# Altium schematic symbol library Capacitor.SchLib: 23 symbols
Pins are listed as number, name and electrical type; pins without a type are passive.

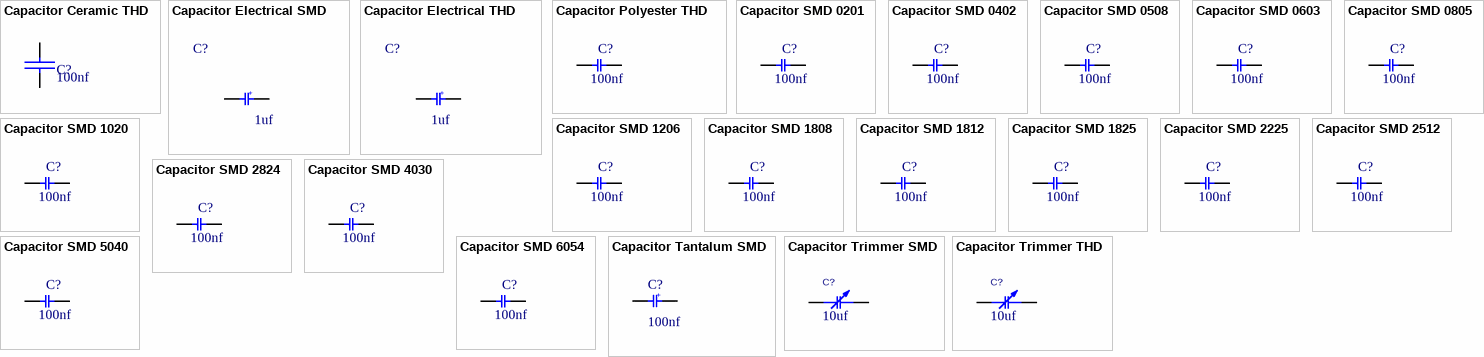
[diagram p0: symbols Capacitor Ceramic THD to Capacitor Trimmer THD]

## Capacitor Ceramic THD
designator C?  value 100nf
Capacitor Ceramic THD; DatasheetVersion: 2022
footprint Cap - 100nF
footprint C_CER_D3 (CAP, CER MULTILAYER, D:3.5mm, pitch: 2.54mm)
footprint C_CER_D5 (CAP, CER, D:5mm, pitch: 2.5mm)
footprint C_CER_D6A (CAP, CER MULTILAYER, 5.8X1.7mm, pitch: 2.5mm)
footprint C_CER_D6B (CAP, CER MULTILAYER, 6X2mm, pitch: 5mm)
footprint C_CER_D7A (CAP, CER MULTILAYER, 7.0X1.7mm, pitch: 5.0mm)
footprint C_CER_D7B (CAP, CER MULTILAYER, 7.0X2.6mm, pitch: 5.0mm)
footprint C_CER_D10 (CAP, CER MULTILAYER, 12X4mm, pitch: 7.5mm)
footprint C_CER_D12 (CAP, CER MULTILAYER, 12X4mm, pitch: 7.5mm)
footprint C_CER_M4 (CAP, CER MULTILAYER, 4.2X2.0mm, pitch: 5.0mm, TDK FK24)
footprint C_CER_M5 (CAP, CER MULTILAYER, 5.0X2.5mm, pitch: 2.5mm, RAD0.1)
footprint THD CRAMIC 5MM
footprint E_900x700x900 (TH, 2- Leads, Body 9x7mm, Pin Spacing 7.5mm)
pins: 1 +, 2 -

## Capacitor Electrical SMD
designator C?  value 1uf
Capacitor Electrical SMD; DatasheetVersion: 2022
footprint Elko A
footprint Elko B
footprint Elko C
footprint Elko D
footprint Elko D8
footprint Elko E
footprint Elko F
footprint Elko G
footprint C_EL_10_9 (Electrolytic Cap, 10.3mm, L: 8.7mm)
footprint C_EL_10_10 (Electrolytic Cap, 10.3mm, L: 10mm)
footprint C_EL_10_12 (Electrolytic Cap, 10.3mm, L: 12.4mm)
footprint C_EL_12 (Electrolytic Cap, 12.5x13mm)
footprint C_EL_6_4 (Electrolytic Cap, D: 6.3mm L: 3.9mm, Size D)
footprint C_EL_6_6 (Electrolytic Cap, D: 6.3mm L: 5.8mm, Size D)
footprint C_EL_6_8 (Electrolytic Cap, D: 6.3mm L: 7.7mm, Size D)
footprint C_EL_8 (Electrolytic Cap, Size E, Size F, 8.3X10)
footprint C_EL_4_4 (Electrolytic Cap, D: 4.3mm, Size B, 3.9mm Height)
footprint C_EL_4_5 (Electrolytic Cap, D: 4.3mm, Size B, 5.5mm Height)
footprint C_EL_5 (Electrolytic Cap, D: 5.0mm, L: 5.8mm, Size C)
pins: 1, 2
text: +

## Capacitor Electrical THD
designator C?  value 1uf
Capacitor Electrical THD; DatasheetVersion: 20222
footprint 1500uF 35V 13x40
footprint Cap electrolitic radial 8x12-3.5
footprint Cap electrolitic radial 10x16-5
footprint Cap electrolitic radial 13x25-5
footprint CAPCITOR
footprint Cap_1_(1.5mm) (Capacitor, Electrolytic, Radial; Body 5 x 6.8 mm (Dia.xH typ); Pin Spacing 2 mm (typ))
footprint Cap_2_(2.5mm) (Capacitor, Electrolytic, Radial; Body 6.3 x 6.8 mm (Dia.xH typ); Pin Spacing 2.5 mm (typ))
footprint Cap_3_(3.5mm) (Capacitor, Electrolytic, Radial; Body 8 x 5 mm (Dia.xH typ); Pin Spacing 3.5 mm (typ))
footprint Cap_4_(5mm) (Capacitor, Electrolytic, Radial; Body 10 x 5 mm (Dia.xH typ); Pin Spacing 5 mm (typ))
footprint Cap1_(2mm) (Capacitor, Electrolytic, Radial; Body 5 x 6.8 mm (Dia.xH typ); Pin Spacing 2 mm (typ))
footprint Cap2_(2.5mm) (Capacitor, Electrolytic, Radial; Body 6.3 x 6.8 mm (Dia.xH typ); Pin Spacing 2.5 mm (typ))
footprint Cap3_(3.5mm) (Capacitor, Electrolytic, Radial; Body 8 x 5 mm (Dia.xH typ); Pin Spacing 3.5 mm (typ))
footprint Cap4_(5mm) (Capacitor, Electrolytic, Radial; Body 10 x 5 mm (Dia.xH typ); Pin Spacing 5 mm (typ))
footprint Cap5_(7.5mm) (Capacitor, Electrolytic, Radial; Body 16 x 25 mm (Dia.xH typ); Pin Spacing 7.5 mm (typ))
footprint C_EL_4X7 (Cap Elec, D4.0X7.0H pitch: 1.5mm)
footprint C_EL_5X7 (Cap Elec, D5.0X7.0H pitch: 2mm)
footprint C_EL_5X11 (Cap Elec, D5.0X11.0H pitch: 2mm)
footprint C_EL_6X11 (Cap Elec, D6.3X11.0H pitch: 2.5mm)
footprint C_EL_6X12_R (Cap Elec, D6.3X12.0H pitch: 2.5mm)
footprint C_EL_8X12 (Cap Elec, D8.0X12.0H pitch: 3.5mm, RB.14/.26, RB.15/.32)
footprint C_EL_8X12R (Cap Elec, D8.0X12.0H pitch: 3.5mm, RIGHT ANGLE)
footprint C_EL_10X12 (Cap Elec, D10.0X12.0H pitch: 5.0mm)
footprint C_EL_10X20 (Cap Elec, D10.0X20.0H pitch: 5.0mm, RB.2/.4)
footprint C_EL_12X25 (Cap Elec, D12.0X25.0H pitch: 5.0mm, RB.2/.5)
footprint C_EL_16X25 (Cap Elec, D16.0X25.0H pitch: 7.6mm, RB.3/.6)
footprint C_EL_18X35 (Cap Elec, D18.0X35.0H pitch: 7.6mm, RB.3/.7)
footprint C_EL_20X35 (Cap Elec, D20.0X35.0H pitch: 10.0mm, RB.4/.8)
footprint C_EL_25X40 (Cap Elec, D25.0X40.0H pitch: 12.8mm, RB.5/1)
footprint C_EL_26X13X27 (Cap Elec, 26X13X27mm, 18mm pitch)
footprint C_EL_30X50 (Cap Elec, D30.0X50.0H pitch: 10.0mm)
footprint C_EL_35X30 (Cap Elec, D35.0X30.0H pitch: 10.0mm, 470uF/400V, RB.44/1.3)
footprint PLOAR 30x22.2
footprint ploar 8x12 size
footprint POLAR 10X20 SIZE
footprint POLAR 16X32 SIZE
pins: 1, 2
text: +

## Capacitor Polyester THD
designator C?  value 100nf
Capacitor Polyester THD; DatasheetVersion: 2022
footprint Cap - 10nF - 630V
footprint Cap - 100nF - 2
footprint Cap - 100nF - 400V
footprint Cap - 220n - 400V - Poly
footprint Cap - 330nF - 400V
footprint Cap_680nF
footprint C_PLY_6X2_5 (CAP, FILM MKT, 6.3X2.4mm, pitch: 4.7mm)
footprint C_PLY_6X3 (CAP, POLYESTER, 5.8X3.5mm pitch: 5.0mm)
footprint C_PLY_7X3 (CAP, POLYESTER, 7.5X3mm pitch: 5.0mm)
footprint C_PLY_7X5 (CAP, POLYESTER, 7.0X5.0mm pitch: 5.0mm)
footprint C_PLY_7X5X10 (CAP, POLYESTER, 7.0X5.0x10mm pitch: 5.0mm)
footprint C_PLY_7X6 (CAP, POLYESTER, 7.0X6.0mm pitch: 5.0mm)
footprint C_PLY_7X6_5 (CAP, POLYESTER, 7.3X6.5mm pitch: 5.0mm)
footprint C_PLY_9X6 (CAP, POLYESTER, 9.3X5.2mm pitch: 7.6mm)
footprint C_PLY_10X5 (CAP, POLYESTER, 10X5.5mm pitch: 7.6mm)
footprint C_PLY_10X6X9 (CAP, POLYESTER, 10.5X6.0X9.0mm pitch: 7.6mm)
footprint C_PLY_10X6X12 (CAP, POLYESTER, 10.3X6.0X12.0mm pitch: 7.6mm)
footprint C_PLY_10X8 (CAP, POLYESTER, 10.0X8.0 pitch: 7.6mm)
footprint C_PLY_12X4 (CAP, POLYESTER, 12.5X4.5X9.0 pitch: 10mm)
footprint C_PLY_13X5 (CAP, POLYESTER, 12.8X4.8 pitch: 10mm)
footprint C_PLY_19X8 (CAP, POLYESTER, 19.0X8.0mm pitch: 15.0mm, 0.22uF 400V)
footprint C_PLY_22X7 (CAP, POLYESTER, 33.0X7.0mm pitch: 20.0mm, 0.68uF 400V)
footprint C_PLY_24X6 (CAP, POLYESTER, 23.8X5.8mm pitch: 20.0mm, 0.33uF 400V)
footprint C_PLY_26X8 (CAP, POLYESTER, 26.0X7.8mm pitch: 20.0mm, 0.68uF 400V)
footprint C_PLY_26X9 (CAP, POLYESTER, 26.0X9.3mm pitch: 20.0mm, 0.68uF 400V)
pins: 1, 2

## Capacitor SMD 0201
designator C?  value 100nf
Capacitor C SMD 0201; DatasheetVersion: 2022
footprint C0201 (CHIP Capacitor, 0.5x0.25mm, 0201)
footprint C0201O (CHIP Capacitor, 0.5x0.25mm, 0201)
pins: 1, 2

## Capacitor SMD 0402
designator C?  value 100nf
Capacitor C SMD 0402; DatasheetVersion: 2022
footprint C0402 (CHIP Capacitor, 1.0X0.5mm, 0402)
footprint C0402E (CHIP Capacitor, 1.0X0.5mm, 0402, EXPANDED PAD)
footprint C0402O (CHIP Capacitor, 1.0X0.5mm, 0402 OPTIMIZED)
pins: 1, 2

## Capacitor SMD 0508
designator C?  value 100nf
Capacitor C SMD 0508; DatasheetVersion: 2022
footprint C0508 (CHIP Capacitor, 1.3X2.0mm, 0508)
pins: 1, 2

## Capacitor SMD 0603
designator C?  value 100nf
Capacitor C SMD 0603; DatasheetVersion: 2022
footprint C0603 (CHIP Capacitor, 1.6X0.8mm, 0603)
footprint C0603E (CHIP Capacitor, 1.6X0.8mm, EXPANDED PAD)
footprint C0603O (CHIP Capacitor, 1.6X0.8mm, 0603 OPTIMIZED)
footprint CAPC1608L (0603) (Chip Capacitor, Body 1.6x0.8mm, IPC High Density)
footprint CAPC1608M (0603) (Chip Capacitor, Body 1.6x0.8mm, IPC Low Density)
footprint CAPC2012N (0805) (Chip Capacitor, Body 2.0x1.3mm, IPC Medium Density)
footprint SMD_CAP_0603
pins: 1, 2

## Capacitor SMD 0805
designator C?  value 100nf
Capacitor C SMD 0805; DatasheetVersion: 2022
footprint C0805 (CHIP Capacitor, 2.0X1.3mm, 0805)
footprint C0805E (CHIP Capacitor, 2.0X1.3mm, 0805, EXPANDED PAD)
footprint CAPC2012L (0805) (Chip Capacitor, Body 2.0x1.3mm, IPC High Density)
footprint CAPC2012M (0805) (Chip Capacitor, Body 2.0x1.3mm, IPC Low Density)
footprint CAPC2012N (0805) (Chip Capacitor, Body 2.0x1.3mm, IPC Medium Density)
footprint SMD_CAP_0805
pins: 1, 2

## Capacitor SMD 1020
designator C?  value 100nf
Capacitor C SMD 1020; DatasheetVersion: 2022
footprint C1020 (CHIP Capacitor, 2.50x5.00mm)
pins: 1, 2

## Capacitor SMD 1206
designator C?  value 100nf
Capacitor C SMD 1206; DatasheetVersion: 2022
footprint C1206 (CHIP Capacitor, 3.2X1.6mm, 1206)
footprint C1206E (CHIP Capacitor, 3.2X1.6mm, 1206, EXPANDED PAD)
footprint CAPC3216L (1206) (Chip Capacitor, Body 3.2x1.6mm, IPC High Density)
footprint CAPC3216M (1206) (Chip Capacitor, Body 3.2x1.6mm, IPC Low Density)
footprint CAPC3216N (1206) (Chip Capacitor, Body 3.2x1.6mm, IPC Medium Density)
footprint CAP 1206 (3216X15L) (Chip Capacitor, 2-Leads, Body 3.2x1.6mm, IPC High Density)
footprint SMD_CAP_1206
pins: 1, 2

## Capacitor SMD 1808
designator C?  value 100nf
Capacitor C SMD 1808; DatasheetVersion: 2022
footprint C1808 (CHIP Capacitor, 4.6X2.0mm, 1808, 1806, 4620, 4520)
pins: 1, 2

## Capacitor SMD 1812
designator C?  value 100nf
Capacitor C SMD 1812; DatasheetVersion: 2022
footprint C1812 (Chip Capacitor, 4.5x3.2mm, 1612, 1812, 4532)
pins: 1, 2

## Capacitor SMD 1825
designator C?  value 100nf
Capacitor C SMD 1825; DatasheetVersion: 2022
footprint C1825 (Chip Capacitor, 4.5x6.4mm, 1825, 4564)
pins: 1, 2

## Capacitor SMD 2225
designator C?  value 100nf
Capacitor C SMD 2225; DatasheetVersion: 2021
footprint C2225 (Chip Capacitor, 5.6x6.4mm, 2225, 5664, 2220)
footprint C2225_23 (Chip Capacitor, 5.6x6.4mm, 2225, 5664, 2220)
footprint C2225_46 (Chip Capacitor, 5.6x6.4mm, 2225, 5664, 2220)
pins: 1, 2

## Capacitor SMD 2512
designator C?  value 100nf
Capacitor C SMD 2512; DatasheetVersion: 2022
footprint C2512 (Chip Capacitor, 6.4x3.2mm, 2512, 6432)
pins: 1, 2

## Capacitor SMD 2824
designator C?  value 100nf
Capacitor C SMD 2824; DatasheetVersion: 2022
footprint C2824 (Chip Capacitor, 7.2x6.1x3mm, 2824)
footprint C2824_50 (Chip Capacitor, 7.2x6.1x5mm, 2824)
pins: 1, 2

## Capacitor SMD 4030
designator C?  value 100nf
Capacitor C SMD 4030; DatasheetVersion: 2022
footprint C4030 (Chip Capacitor, 10.2x7.6x5mm, 4030)
pins: 1, 2

## Capacitor SMD 5040
designator C?  value 100nf
Capacitor C SMD 5040; DatasheetVersion: 2022
footprint C5040 (Chip Capacitor, 12.7x10.2x6mm, 5040)
pins: 1, 2

## Capacitor SMD 6054
designator C?  value 100nf
Capacitor C SMD 6054; DatasheetVersion: 2022
footprint C6054 (Chip Capacitor, 15.3x13.7x7mm, 6054)
pins: 1, 2

## Capacitor Tantalum SMD
designator C?  value 100nf
Capacitor Tantalum SMD; DatasheetVersion: 2022
footprint CAPP 1206 (3216X18L) Size A (Chip Capacitor, 2-Leads, Body 3.2x1.6mm, IPC High Density, chip Tantalum)
footprint Cap_A (Capacitor, SM Tantalum; Body 3.2 x 1.6 mm (LxW typ))
footprint Cap_B (Capacitor, SM Tantalum; Body 3.5 x 2.8 mm (LxW typ))
footprint Cap_C (Capacitor, SM Tantalum; Body 6.0 x 3.2 mm (LxW typ))
footprint Cap_D (Capacitor, SM Tantalum; Body 7.3 x 4.3 mm (LxW typ))
footprint Cap_E (Capacitor, SM Tantalum; Body 7.3 x 6.0 mm (LxW typ))
footprint Cap_R (Capacitor, SM Tantalum; Body 2.0 x 1.3 mm (LxW typ))
footprint Cap_V (Capacitor, SM Tantalum; Body 7.3 x 4.3 mm (LxW typ))
footprint Cap_X (Capacitor, SM Tantalum; Body 7.3 x 4.3 mm (LxW typ))
footprint C_TN_7361 (CAPACITOR, TAN V, 2924, 7361, 7.3X6.1mm)
footprint C_TN_7343 (CAPACITOR, TAN D, TAN E, TAN Y, TAN X, 7343P, 7.3X4.3mm)
footprint C_TN_6032 (CAPACITOR, TAN C, TAN F, TAN U, TAN L, 6032P, 6.0X3.2mm)
footprint C_TN_3528_1210 (CAPACITOR, TAN B, TAN H, TAN T, TAN M, 3528P, 1210P, 3.5X2.8mm)
pins: 1, 2
text: +

## Capacitor Trimmer SMD
designator C?  value 10uf
Capacitor Trimmer SMD; DatasheetVersion: 2022
footprint C_TRM_1715 (Cap, Trimmer TZR1 1.7mmX1.5mm)
footprint C_TRM_3225 (Cap, Trimmer TZY2 3.2mmX2.5mm)
footprint C_TRM_4532 (Cap, Trimmer TZC3 4.5X3.2mm)
footprint C_TRM_4842 (Cap, Trimmer SMD 4.8x4.2mm)
pins: 1, 2

## Capacitor Trimmer THD
designator C?  value 10uf
Capacitor Trimmer THD; DatasheetVersion: 2022
footprint CTRM_6X6 (CAP, TRIMMER, Murata TZ03)
footprint CTRM_10X10 (CAP, TRIMMER, 10X10mm 3P)
pins: 1, 2